# EAGLE library part ZBMODULE (library fiozera)
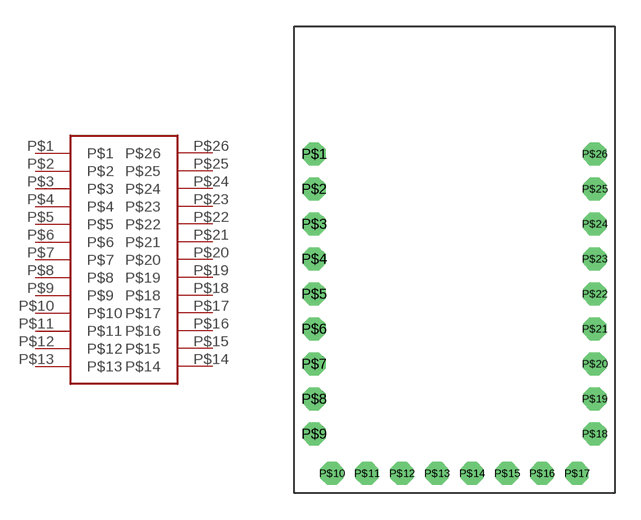
[diagram p1: symbol with the pads of ZBMODULE; footprint ZBMODULE]

Designator prefix -

## ZBMODULE  [ZBMODULE]
P$1  P$1
P$2  P$2
P$3  P$3
P$4  P$4
P$5  P$5
P$6  P$6
P$7  P$7
P$8  P$8
P$9  P$9
P$10  P$10
P$11  P$11
P$12  P$12
P$13  P$13
P$14  P$14
P$15  P$15
P$16  P$16
P$17  P$17
P$18  P$18
P$19  P$19
P$20  P$20
P$21  P$21
P$22  P$22
P$23  P$23
P$24  P$24
P$25  P$25
P$26  P$26

## Footprint ZBMODULE (pad centres in mm)
drill 0.8 octagon: P$1 1.14,19.4; P$2 1.14,17.4; P$3 1.14,15.4; P$4 1.14,13.4; P$5 1.14,11.4; P$6 1.14,9.4; P$7 1.14,7.4; P$8 1.14,5.4; P$9 1.14,3.4; P$10 2.15,1.14; P$11 4.15,1.14; P$12 6.15,1.14; P$13 8.15,1.14; P$14 10.15,1.14; P$15 12.15,1.14; P$16 14.15,1.14; P$17 16.15,1.14; P$18 17.16,3.4; P$19 17.16,5.4; P$20 17.16,7.4; P$21 17.16,9.4; P$22 17.16,11.4; P$23 17.16,13.4; P$24 17.16,15.4; P$25 17.16,17.4; P$26 17.16,19.4